# Altium schematic symbol library CONN(1.27mm, 2x7, 14-POS, SMD).SchLib: 1 symbol
Pins are listed as number, name and electrical type; pins without a type are passive.

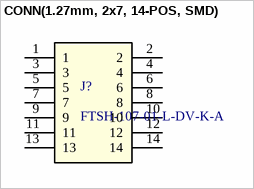
[diagram p0: symbol CONN(1.27mm, 2x7, 14-POS, SMD)]

## CONN(1.27mm, 2x7, 14-POS, SMD)
designator J?, comment FTSH-107-01-L-DV-K-A
Connector Header Surface Mount 14 position 0.050 (1.27mm); Manufacturer: Samtec Inc.; Manufacturer_PN: FTSH-107-01-L-DV-K-A; Package: SMD; Datasheet: https://suddendocs.samtec.com/catalog_english/ftsh_smt.pdf; Digikey_Link: https://www.digikey.it/it/products/detail/samtec-inc/FTSH-107-01-L-DV-K-A/7443623
footprint SAMTEC_FTSH-107-01-L-DV-K-A
pins: 1, 2, 3, 4, 5, 6, 7, 8, 9, 10, 11, 12, 13, 14